# Altium schematic symbol library MMBT3904.SchLib: 1 symbol
Pins are listed as number, name and electrical type; pins without a type are passive.

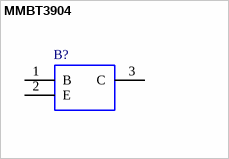
[diagram p0: symbol MMBT3904]

## MMBT3904
designator B?
Trans GP BJT NPN 40V 0.2A Automotive 3-Pin SOT-23; Manufacturer_Name: Diotec; Geometry.Height: 1.2mm; Mouser Part Number: *; Mouser Price/Stock: *; Manufacturer_Part_Number: MMBT3904; Datasheet Link: https://media.digikey.com/pdf/Data%20Sheets/ON%20Semiconductor%20PDFs/2N3904,MMBT3904,PZT3904.pdf
footprint SOT95P240X120-3N
pins: 1 B, 2 E, 3 C